# Altium integrated library Analog Devices Data Converters Analog-to-Digital Converters.IntLib: 2400 symbols (part 173 of 338)
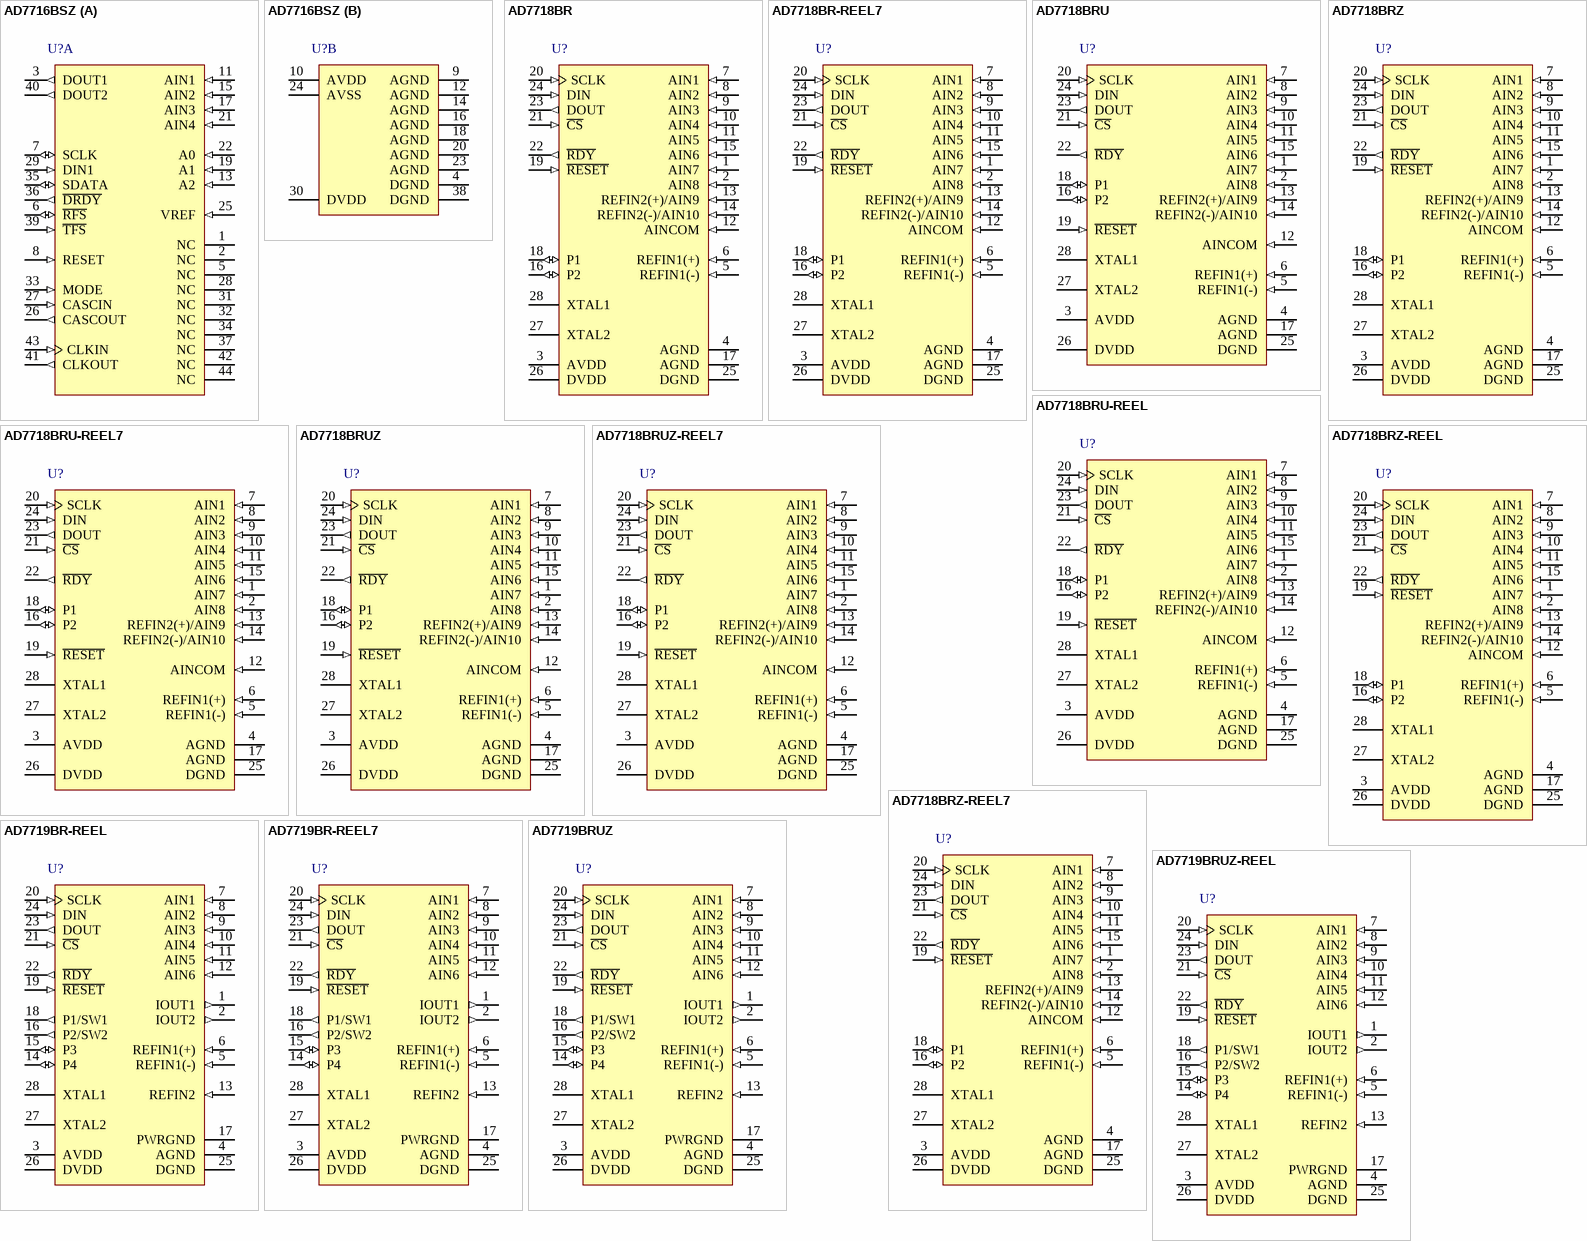
[diagram p252: symbols AD7716BSZ to AD7719BRUZ-REEL]

## AD7719BR-REEL7
designator U?
6 Channel 24-Bit Low Power Sigma-Delta Analog-to-Digital Converter with Serial, SPI Interface, Factory-Calibrated, 105SPS, -40 to +85 degC, RW-28, Reel; Part Number: AD7719; Manufacturer: Analog Devices; Resolution (Bits): 24; Channels: 6; Throughput Rate (SPS): 105; Interface: Ser, SPI; DatasheetVersion: Rev.A; PackageVersion: 060706-A; PackageReference: RW-28; PackageDescription: 28-Lead Standard Small Outline Package [SOIC_W]; RoHS: N; Packing: Reel; Mounting Technology: Surface Mount; Code_JEDEC: MS-013-AE; ComponentLink1Description: Manufacturer URL; ComponentLink1URL: http://www.analog.com/en/index.html; ComponentLink2Description: Datasheet; ComponentLink2URL: http://www.analog.com/static/imported-files/data_sheets/AD7719.pdf; ComponentLink3Description: Package Specification; ComponentLink3URL: http://www.analog.com/static/imported-files/packages/35833120341221RW_28.pdf; ComponentLink4Description: Product URL; ComponentLink4URL: http://www.analog.com/en/analog-to-digital-converters/ad-converters/ad7719/products/product.html
footprint RW-28_N (SOIC, 28-Leads, Body 17.9x7.5mm, Pitch 1.27mm, IPC Medium Density)
footprint RW-28_L (SOIC, 28-Leads, Body 17.9x7.5mm, Pitch 1.27mm, IPC High Density)
footprint RW-28_M (SOIC, 28-Leads, Body 17.9x7.5mm, Pitch 1.27mm, IPC Low Density)
pins: 1 IOUT1 (out) "Output for Internal 200 uA Excitation Current Source. Current source IEXC1 and/or IEXC2 can be switched to this output.", 2 IOUT2 (out) "Output for Internal 200 uA Excitation Current Source. Current source IEXC1 and/or IEXC2 can be switched to this output.", 3 AVDD (power) "Analog Supply Voltage.", 4 AGND (power) "Analog Ground.", 5 REFIN1(-) (in) "Negative Reference Input for Main ADC Channel. This reference input can lie anywhere between AGND and AVDD - 1 V.", 6 REFIN1(+) (in) "Positive Reference Input for Main ADC Channel. REFIN1(+) can lie anywhere between AVDD and AGND + 1 V. The nominal reference voltage (REFIN1(+) - REFIN1(-)) is 2.5 V, but the part is functional with a reference range from 1 (See Datasheet)", 7 AIN1 (in) "Analog Input. AIN1 is dedicated to the main channel.", 8 AIN2 (in) "Analog Input. AIN2 is dedicated to the main channel.", 9 AIN3 (in) "Analog Input. AIN3 can be multiplexed to either the main or auxiliary channel.", 10 AIN4 (in) "Analog Input. AIN4 can be multiplexed to either the main or auxiliary channel.", 11 AIN5 (in) "Analog Input. AIN5 is dedicated to the auxiliary channel and is referenced to AIN6 or AGND.", 12 AIN6 (in) "Analog Input. AIN6 is dedicated to the auxiliary channel. It forms a differential input pair with AIN5 in fully differential input mode or is referenced to AGND in pseudodifferential mode.", 13 REFIN2 (in) "Single-Ended Reference Input for Auxiliary Channel. The nominal input reference is 2.5 V. The auxiliary channel will function with an input reference range from 1 V to AVDD.", 14 P4 (io) "General-Purpose I/O Bit. The input and output voltage levels are referenced to AVDD and AGND.", 15 P3 (io) "General-Purpose I/O Bit. The input and output voltage levels are referenced to AVDD and AGND.", 16 P2/SW2 (out) "Dual-Purpose Pin. It can act as a general-purpose output (P2) bit referenced between AVDD and AGND or as a low-side power switch (SW2) to PWRGND.", 17 PWRGND (power) "Ground Point for the Low-Side Power Switches SW2 and SW1. PWRGND must be tied to AGND.", 18 P1/SW1 (out) "Dual-Purpose Pin. It can act as a general-purpose output (P1) bit referenced between AVDD and AGND or as a low-side power switch (SW1) to PWRGND.", 19 ~{RESET} (in) "Digital Input Used to Reset the ADC to Its Power-On Reset Status. This pin has a weak pull-up internally to DVDD.", 20 SCLK (in) "Serial Clock Input for Data Transfers to and from the ADC. The SCLK has a Schmitt-triggered input, making the interface suitable for opto-isolated applications. The serial clock can be continuous with all data transmitted in (See Datasheet)", 21 ~{CS} (in) "Chip Select Input. This is an active low logic input used to select the AD7719. C\S\ can be used to select the AD7719 in systems with more than one device on the serial bus or as a frame synchronization signal in (See Datasheet)", 22 ~{RDY} (out) "R\D\Y\ is a logic low status output from the AD7719. R\D\Y\ is low if either the main ADC or auxiliary ADC channel has valid data in its data register. This output returns high on completion of a read operation from the data (See Datasheet)", 23 DOUT (out) "Serial Data Output Accessing the Output Shift Register of the AD7719. The output shift register can contain data from any of the on-chip data, calibration, or control registers.", 24 DIN (in) "Serial Data Input Accessing the Input Shift Register on the AD7719. Data in this shift register is transferred to the calibration or control registers within the ADC depending on the selection bits of the Communications (See Datasheet)", 25 DGND (power) "Ground Reference Point for the Digital Circuitry.", 26 DVDD (power) "Digital Supply Voltage, 3 V or 5 V Nominal.", 27 XTAL2 "Output from the 32 kHz Crystal Oscillator Inverter.", 28 XTAL1 "Input to the 32 kHz Crystal Oscillator Inverter."

## AD7719BRUZ
designator U?
6 Channel 24-Bit Low Power Sigma-Delta Analog-to-Digital Converter with Serial, SPI Interface, Factory-Calibrated, 105SPS, -40 to +85 degC, RU-28, Pb-Free, Tube; Part Number: AD7719; Manufacturer: Analog Devices; Resolution (Bits): 24; Channels: 6; Throughput Rate (SPS): 105; Interface: Ser, SPI; DatasheetVersion: Rev.A; PackageVersion: 2005; PackageReference: RU-28; PackageDescription: 28-Lead Thin Shrink Small Outline Package [TSSOP]; RoHS: Y; Packing: Tube; Mounting Technology: Surface Mount; Code_JEDEC: MO-153-AE; ComponentLink1Description: Manufacturer URL; ComponentLink1URL: http://www.analog.com/en/index.html; ComponentLink2Description: Datasheet; ComponentLink2URL: http://www.analog.com/static/imported-files/data_sheets/AD7719.pdf; ComponentLink3Description: Package Specification; ComponentLink3URL: http://www.analog.com/static/imported-files/packages/249854663RU_28.pdf; ComponentLink4Description: Product URL; ComponentLink4URL: http://www.analog.com/en/analog-to-digital-converters/ad-converters/ad7719/products/product.html
footprint RU-28_N (TSOP, 28-Leads, Body 9.7x4.4mm, Pitch 0.65mm, IPC Medium Density)
footprint RU-28_L (TSOP, 28-Leads, Body 9.7x4.4mm, Pitch 0.65mm, IPC High Density)
footprint RU-28_M (TSOP, 28-Leads, Body 9.7x4.4mm, Pitch 0.65mm, IPC Low Density)
pins: 1 IOUT1 (out) "Output for Internal 200 uA Excitation Current Source. Current source IEXC1 and/or IEXC2 can be switched to this output.", 2 IOUT2 (out) "Output for Internal 200 uA Excitation Current Source. Current source IEXC1 and/or IEXC2 can be switched to this output.", 3 AVDD (power) "Analog Supply Voltage.", 4 AGND (power) "Analog Ground.", 5 REFIN1(-) (in) "Negative Reference Input for Main ADC Channel. This reference input can lie anywhere between AGND and AVDD - 1 V.", 6 REFIN1(+) (in) "Positive Reference Input for Main ADC Channel. REFIN1(+) can lie anywhere between AVDD and AGND + 1 V. The nominal reference voltage (REFIN1(+) - REFIN1(-)) is 2.5 V, but the part is functional with a reference range from 1 (See Datasheet)", 7 AIN1 (in) "Analog Input. AIN1 is dedicated to the main channel.", 8 AIN2 (in) "Analog Input. AIN2 is dedicated to the main channel.", 9 AIN3 (in) "Analog Input. AIN3 can be multiplexed to either the main or auxiliary channel.", 10 AIN4 (in) "Analog Input. AIN4 can be multiplexed to either the main or auxiliary channel.", 11 AIN5 (in) "Analog Input. AIN5 is dedicated to the auxiliary channel and is referenced to AIN6 or AGND.", 12 AIN6 (in) "Analog Input. AIN6 is dedicated to the auxiliary channel. It forms a differential input pair with AIN5 in fully differential input mode or is referenced to AGND in pseudodifferential mode.", 13 REFIN2 (in) "Single-Ended Reference Input for Auxiliary Channel. The nominal input reference is 2.5 V. The auxiliary channel will function with an input reference range from 1 V to AVDD.", 14 P4 (io) "General-Purpose I/O Bit. The input and output voltage levels are referenced to AVDD and AGND.", 15 P3 (io) "General-Purpose I/O Bit. The input and output voltage levels are referenced to AVDD and AGND.", 16 P2/SW2 (out) "Dual-Purpose Pin. It can act as a general-purpose output (P2) bit referenced between AVDD and AGND or as a low-side power switch (SW2) to PWRGND.", 17 PWRGND (power) "Ground Point for the Low-Side Power Switches SW2 and SW1. PWRGND must be tied to AGND.", 18 P1/SW1 (out) "Dual-Purpose Pin. It can act as a general-purpose output (P1) bit referenced between AVDD and AGND or as a low-side power switch (SW1) to PWRGND.", 19 ~{RESET} (in) "Digital Input Used to Reset the ADC to Its Power-On Reset Status. This pin has a weak pull-up internally to DVDD.", 20 SCLK (in) "Serial Clock Input for Data Transfers to and from the ADC. The SCLK has a Schmitt-triggered input, making the interface suitable for opto-isolated applications. The serial clock can be continuous with all data transmitted in (See Datasheet)", 21 ~{CS} (in) "Chip Select Input. This is an active low logic input used to select the AD7719. C\S\ can be used to select the AD7719 in systems with more than one device on the serial bus or as a frame synchronization signal in (See Datasheet)", 22 ~{RDY} (out) "R\D\Y\ is a logic low status output from the AD7719. R\D\Y\ is low if either the main ADC or auxiliary ADC channel has valid data in its data register. This output returns high on completion of a read operation from the data (See Datasheet)", 23 DOUT (out) "Serial Data Output Accessing the Output Shift Register of the AD7719. The output shift register can contain data from any of the on-chip data, calibration, or control registers.", 24 DIN (in) "Serial Data Input Accessing the Input Shift Register on the AD7719. Data in this shift register is transferred to the calibration or control registers within the ADC depending on the selection bits of the Communications (See Datasheet)", 25 DGND (power) "Ground Reference Point for the Digital Circuitry.", 26 DVDD (power) "Digital Supply Voltage, 3 V or 5 V Nominal.", 27 XTAL2 "Output from the 32 kHz Crystal Oscillator Inverter.", 28 XTAL1 "Input to the 32 kHz Crystal Oscillator Inverter."

## AD7719BRUZ-REEL
designator U?
6 Channel 24-Bit Low Power Sigma-Delta Analog-to-Digital Converter with Serial, SPI Interface, Factory-Calibrated, 105SPS, -40 to +85 degC, RU-28, Pb-Free, Reel; Part Number: AD7719; Manufacturer: Analog Devices; Resolution (Bits): 24; Channels: 6; Throughput Rate (SPS): 105; Interface: Ser, SPI; DatasheetVersion: Rev.A; PackageVersion: 2005; PackageReference: RU-28; PackageDescription: 28-Lead Thin Shrink Small Outline Package [TSSOP]; RoHS: Y; Packing: Reel; Mounting Technology: Surface Mount; Code_JEDEC: MO-153-AE; ComponentLink1Description: Manufacturer URL; ComponentLink1URL: http://www.analog.com/en/index.html; ComponentLink2Description: Datasheet; ComponentLink2URL: http://www.analog.com/static/imported-files/data_sheets/AD7719.pdf; ComponentLink3Description: Package Specification; ComponentLink3URL: http://www.analog.com/static/imported-files/packages/249854663RU_28.pdf; ComponentLink4Description: Product URL; ComponentLink4URL: http://www.analog.com/en/analog-to-digital-converters/ad-converters/ad7719/products/product.html
footprint RU-28_N (TSOP, 28-Leads, Body 9.7x4.4mm, Pitch 0.65mm, IPC Medium Density)
footprint RU-28_L (TSOP, 28-Leads, Body 9.7x4.4mm, Pitch 0.65mm, IPC High Density)
footprint RU-28_M (TSOP, 28-Leads, Body 9.7x4.4mm, Pitch 0.65mm, IPC Low Density)
pins: 1 IOUT1 (out) "Output for Internal 200 uA Excitation Current Source. Current source IEXC1 and/or IEXC2 can be switched to this output.", 2 IOUT2 (out) "Output for Internal 200 uA Excitation Current Source. Current source IEXC1 and/or IEXC2 can be switched to this output.", 3 AVDD (power) "Analog Supply Voltage.", 4 AGND (power) "Analog Ground.", 5 REFIN1(-) (in) "Negative Reference Input for Main ADC Channel. This reference input can lie anywhere between AGND and AVDD - 1 V.", 6 REFIN1(+) (in) "Positive Reference Input for Main ADC Channel. REFIN1(+) can lie anywhere between AVDD and AGND + 1 V. The nominal reference voltage (REFIN1(+) - REFIN1(-)) is 2.5 V, but the part is functional with a reference range from 1 (See Datasheet)", 7 AIN1 (in) "Analog Input. AIN1 is dedicated to the main channel.", 8 AIN2 (in) "Analog Input. AIN2 is dedicated to the main channel.", 9 AIN3 (in) "Analog Input. AIN3 can be multiplexed to either the main or auxiliary channel.", 10 AIN4 (in) "Analog Input. AIN4 can be multiplexed to either the main or auxiliary channel.", 11 AIN5 (in) "Analog Input. AIN5 is dedicated to the auxiliary channel and is referenced to AIN6 or AGND.", 12 AIN6 (in) "Analog Input. AIN6 is dedicated to the auxiliary channel. It forms a differential input pair with AIN5 in fully differential input mode or is referenced to AGND in pseudodifferential mode.", 13 REFIN2 (in) "Single-Ended Reference Input for Auxiliary Channel. The nominal input reference is 2.5 V. The auxiliary channel will function with an input reference range from 1 V to AVDD.", 14 P4 (io) "General-Purpose I/O Bit. The input and output voltage levels are referenced to AVDD and AGND.", 15 P3 (io) "General-Purpose I/O Bit. The input and output voltage levels are referenced to AVDD and AGND.", 16 P2/SW2 (out) "Dual-Purpose Pin. It can act as a general-purpose output (P2) bit referenced between AVDD and AGND or as a low-side power switch (SW2) to PWRGND.", 17 PWRGND (power) "Ground Point for the Low-Side Power Switches SW2 and SW1. PWRGND must be tied to AGND.", 18 P1/SW1 (out) "Dual-Purpose Pin. It can act as a general-purpose output (P1) bit referenced between AVDD and AGND or as a low-side power switch (SW1) to PWRGND.", 19 ~{RESET} (in) "Digital Input Used to Reset the ADC to Its Power-On Reset Status. This pin has a weak pull-up internally to DVDD.", 20 SCLK (in) "Serial Clock Input for Data Transfers to and from the ADC. The SCLK has a Schmitt-triggered input, making the interface suitable for opto-isolated applications. The serial clock can be continuous with all data transmitted in (See Datasheet)", 21 ~{CS} (in) "Chip Select Input. This is an active low logic input used to select the AD7719. C\S\ can be used to select the AD7719 in systems with more than one device on the serial bus or as a frame synchronization signal in (See Datasheet)", 22 ~{RDY} (out) "R\D\Y\ is a logic low status output from the AD7719. R\D\Y\ is low if either the main ADC or auxiliary ADC channel has valid data in its data register. This output returns high on completion of a read operation from the data (See Datasheet)", 23 DOUT (out) "Serial Data Output Accessing the Output Shift Register of the AD7719. The output shift register can contain data from any of the on-chip data, calibration, or control registers.", 24 DIN (in) "Serial Data Input Accessing the Input Shift Register on the AD7719. Data in this shift register is transferred to the calibration or control registers within the ADC depending on the selection bits of the Communications (See Datasheet)", 25 DGND (power) "Ground Reference Point for the Digital Circuitry.", 26 DVDD (power) "Digital Supply Voltage, 3 V or 5 V Nominal.", 27 XTAL2 "Output from the 32 kHz Crystal Oscillator Inverter.", 28 XTAL1 "Input to the 32 kHz Crystal Oscillator Inverter."

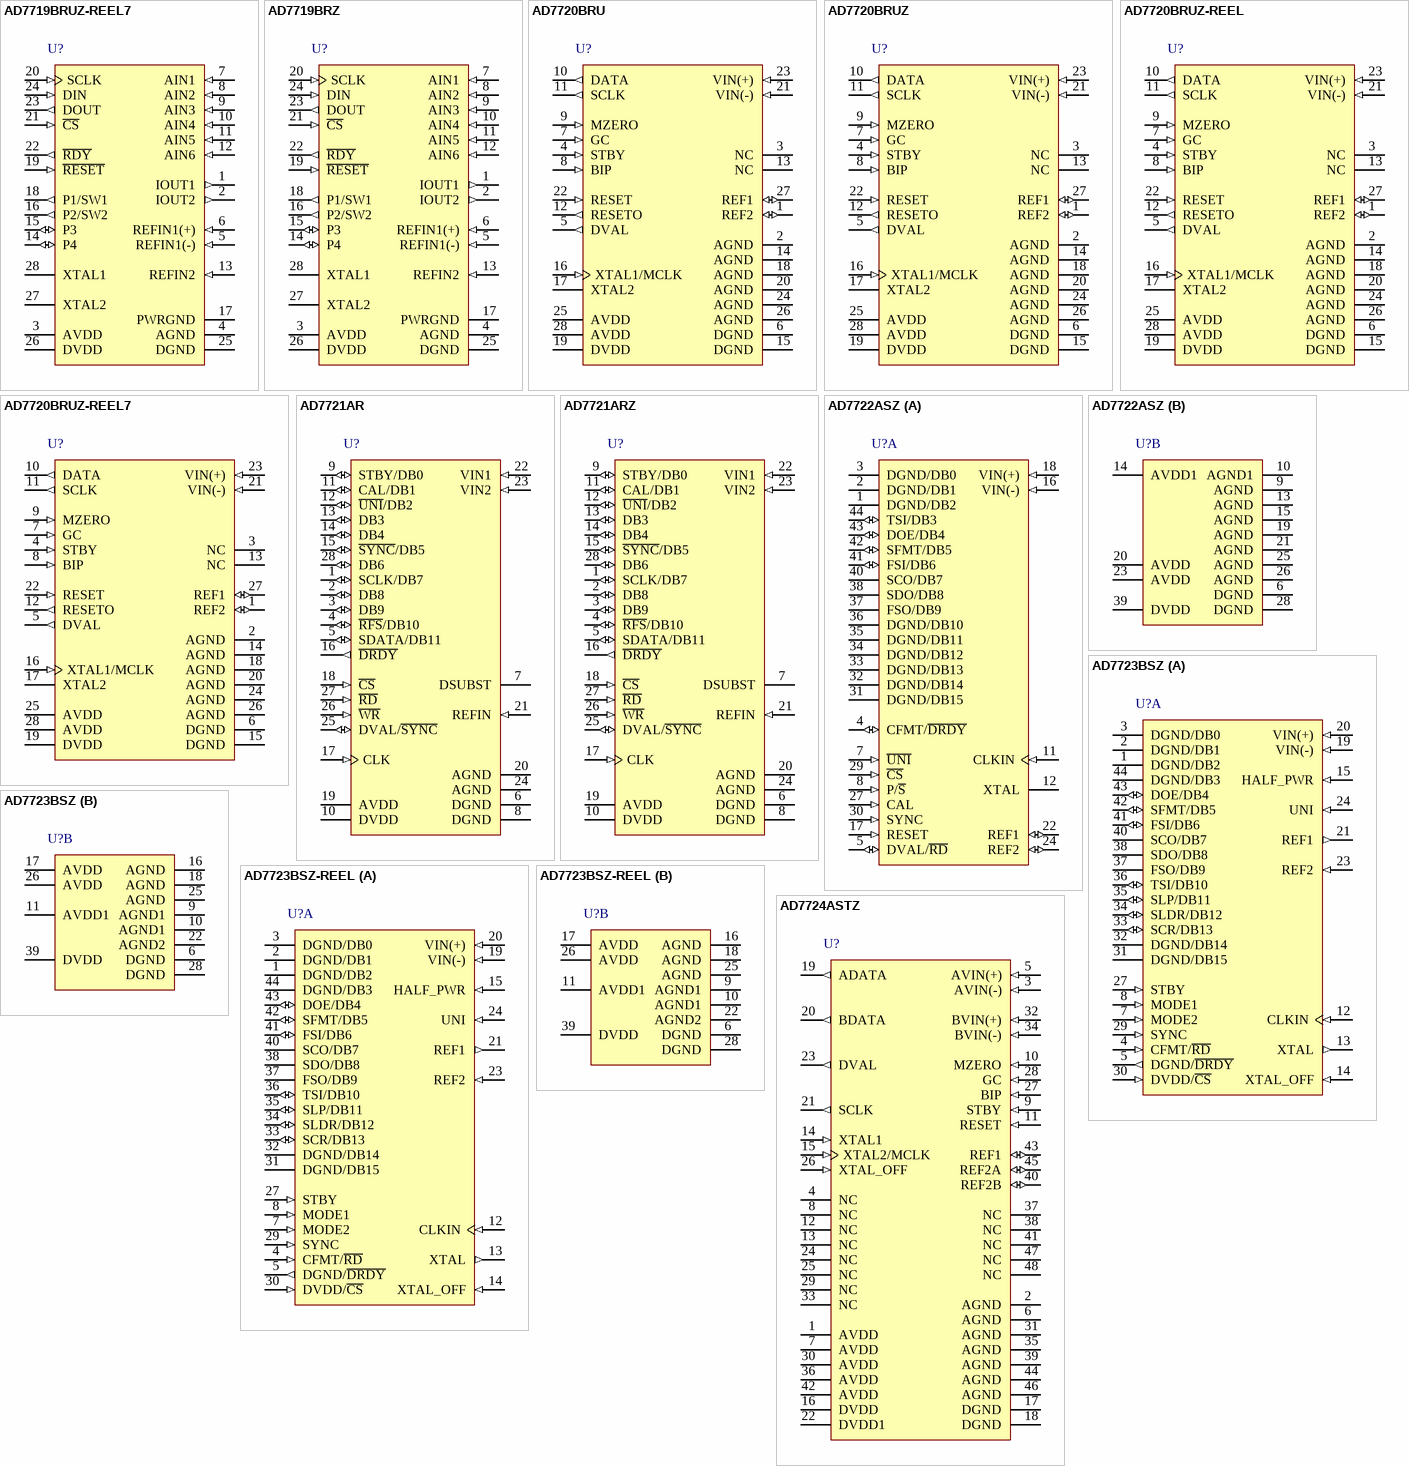
[diagram p55: symbols AD7719BRUZ-REEL7 to AD7724ASTZ]

## AD7719BRUZ-REEL7
designator U?
6 Channel 24-Bit Low Power Sigma-Delta Analog-to-Digital Converter with Serial, SPI Interface, Factory-Calibrated, 105SPS, -40 to +85 degC, RU-28, Pb-Free, Reel; Part Number: AD7719; Manufacturer: Analog Devices; Resolution (Bits): 24; Channels: 6; Throughput Rate (SPS): 105; Interface: Ser, SPI; DatasheetVersion: Rev.A; PackageVersion: 2005; PackageReference: RU-28; PackageDescription: 28-Lead Thin Shrink Small Outline Package [TSSOP]; RoHS: Y; Packing: Reel; Mounting Technology: Surface Mount; Code_JEDEC: MO-153-AE; ComponentLink1Description: Manufacturer URL; ComponentLink1URL: http://www.analog.com/en/index.html; ComponentLink2Description: Datasheet; ComponentLink2URL: http://www.analog.com/static/imported-files/data_sheets/AD7719.pdf; ComponentLink3Description: Package Specification; ComponentLink3URL: http://www.analog.com/static/imported-files/packages/249854663RU_28.pdf; ComponentLink4Description: Product URL; ComponentLink4URL: http://www.analog.com/en/analog-to-digital-converters/ad-converters/ad7719/products/product.html
footprint RU-28_N (TSOP, 28-Leads, Body 9.7x4.4mm, Pitch 0.65mm, IPC Medium Density)
footprint RU-28_L (TSOP, 28-Leads, Body 9.7x4.4mm, Pitch 0.65mm, IPC High Density)
footprint RU-28_M (TSOP, 28-Leads, Body 9.7x4.4mm, Pitch 0.65mm, IPC Low Density)
pins: 1 IOUT1 (out) "Output for Internal 200 uA Excitation Current Source. Current source IEXC1 and/or IEXC2 can be switched to this output.", 2 IOUT2 (out) "Output for Internal 200 uA Excitation Current Source. Current source IEXC1 and/or IEXC2 can be switched to this output.", 3 AVDD (power) "Analog Supply Voltage.", 4 AGND (power) "Analog Ground.", 5 REFIN1(-) (in) "Negative Reference Input for Main ADC Channel. This reference input can lie anywhere between AGND and AVDD - 1 V.", 6 REFIN1(+) (in) "Positive Reference Input for Main ADC Channel. REFIN1(+) can lie anywhere between AVDD and AGND + 1 V. The nominal reference voltage (REFIN1(+) - REFIN1(-)) is 2.5 V, but the part is functional with a reference range from 1 (See Datasheet)", 7 AIN1 (in) "Analog Input. AIN1 is dedicated to the main channel.", 8 AIN2 (in) "Analog Input. AIN2 is dedicated to the main channel.", 9 AIN3 (in) "Analog Input. AIN3 can be multiplexed to either the main or auxiliary channel.", 10 AIN4 (in) "Analog Input. AIN4 can be multiplexed to either the main or auxiliary channel.", 11 AIN5 (in) "Analog Input. AIN5 is dedicated to the auxiliary channel and is referenced to AIN6 or AGND.", 12 AIN6 (in) "Analog Input. AIN6 is dedicated to the auxiliary channel. It forms a differential input pair with AIN5 in fully differential input mode or is referenced to AGND in pseudodifferential mode.", 13 REFIN2 (in) "Single-Ended Reference Input for Auxiliary Channel. The nominal input reference is 2.5 V. The auxiliary channel will function with an input reference range from 1 V to AVDD.", 14 P4 (io) "General-Purpose I/O Bit. The input and output voltage levels are referenced to AVDD and AGND.", 15 P3 (io) "General-Purpose I/O Bit. The input and output voltage levels are referenced to AVDD and AGND.", 16 P2/SW2 (out) "Dual-Purpose Pin. It can act as a general-purpose output (P2) bit referenced between AVDD and AGND or as a low-side power switch (SW2) to PWRGND.", 17 PWRGND (power) "Ground Point for the Low-Side Power Switches SW2 and SW1. PWRGND must be tied to AGND.", 18 P1/SW1 (out) "Dual-Purpose Pin. It can act as a general-purpose output (P1) bit referenced between AVDD and AGND or as a low-side power switch (SW1) to PWRGND.", 19 ~{RESET} (in) "Digital Input Used to Reset the ADC to Its Power-On Reset Status. This pin has a weak pull-up internally to DVDD.", 20 SCLK (in) "Serial Clock Input for Data Transfers to and from the ADC. The SCLK has a Schmitt-triggered input, making the interface suitable for opto-isolated applications. The serial clock can be continuous with all data transmitted in (See Datasheet)", 21 ~{CS} (in) "Chip Select Input. This is an active low logic input used to select the AD7719. C\S\ can be used to select the AD7719 in systems with more than one device on the serial bus or as a frame synchronization signal in (See Datasheet)", 22 ~{RDY} (out) "R\D\Y\ is a logic low status output from the AD7719. R\D\Y\ is low if either the main ADC or auxiliary ADC channel has valid data in its data register. This output returns high on completion of a read operation from the data (See Datasheet)", 23 DOUT (out) "Serial Data Output Accessing the Output Shift Register of the AD7719. The output shift register can contain data from any of the on-chip data, calibration, or control registers.", 24 DIN (in) "Serial Data Input Accessing the Input Shift Register on the AD7719. Data in this shift register is transferred to the calibration or control registers within the ADC depending on the selection bits of the Communications (See Datasheet)", 25 DGND (power) "Ground Reference Point for the Digital Circuitry.", 26 DVDD (power) "Digital Supply Voltage, 3 V or 5 V Nominal.", 27 XTAL2 "Output from the 32 kHz Crystal Oscillator Inverter.", 28 XTAL1 "Input to the 32 kHz Crystal Oscillator Inverter."

## AD7719BRZ
designator U?
6 Channel 24-Bit Low Power Sigma-Delta Analog-to-Digital Converter with Serial, SPI Interface, Factory-Calibrated, 105SPS, -40 to +85 degC, RW-28, Pb-Free, Tube; Part Number: AD7719; Manufacturer: Analog Devices; Resolution (Bits): 24; Channels: 6; Throughput Rate (SPS): 105; Interface: Ser, SPI; DatasheetVersion: Rev.A; PackageVersion: 060706-A; PackageReference: RW-28; PackageDescription: 28-Lead Standard Small Outline Package [SOIC_W]; RoHS: Y; Packing: Tube; Mounting Technology: Surface Mount; Code_JEDEC: MS-013-AE; ComponentLink1Description: Manufacturer URL; ComponentLink1URL: http://www.analog.com/en/index.html; ComponentLink2Description: Datasheet; ComponentLink2URL: http://www.analog.com/static/imported-files/data_sheets/AD7719.pdf; ComponentLink3Description: Package Specification; ComponentLink3URL: http://www.analog.com/static/imported-files/packages/35833120341221RW_28.pdf; ComponentLink4Description: Product URL; ComponentLink4URL: http://www.analog.com/en/analog-to-digital-converters/ad-converters/ad7719/products/product.html
footprint RW-28_N (SOIC, 28-Leads, Body 17.9x7.5mm, Pitch 1.27mm, IPC Medium Density)
footprint RW-28_L (SOIC, 28-Leads, Body 17.9x7.5mm, Pitch 1.27mm, IPC High Density)
footprint RW-28_M (SOIC, 28-Leads, Body 17.9x7.5mm, Pitch 1.27mm, IPC Low Density)
pins: 1 IOUT1 (out) "Output for Internal 200 uA Excitation Current Source. Current source IEXC1 and/or IEXC2 can be switched to this output.", 2 IOUT2 (out) "Output for Internal 200 uA Excitation Current Source. Current source IEXC1 and/or IEXC2 can be switched to this output.", 3 AVDD (power) "Analog Supply Voltage.", 4 AGND (power) "Analog Ground.", 5 REFIN1(-) (in) "Negative Reference Input for Main ADC Channel. This reference input can lie anywhere between AGND and AVDD - 1 V.", 6 REFIN1(+) (in) "Positive Reference Input for Main ADC Channel. REFIN1(+) can lie anywhere between AVDD and AGND + 1 V. The nominal reference voltage (REFIN1(+) - REFIN1(-)) is 2.5 V, but the part is functional with a reference range from 1 (See Datasheet)", 7 AIN1 (in) "Analog Input. AIN1 is dedicated to the main channel.", 8 AIN2 (in) "Analog Input. AIN2 is dedicated to the main channel.", 9 AIN3 (in) "Analog Input. AIN3 can be multiplexed to either the main or auxiliary channel.", 10 AIN4 (in) "Analog Input. AIN4 can be multiplexed to either the main or auxiliary channel.", 11 AIN5 (in) "Analog Input. AIN5 is dedicated to the auxiliary channel and is referenced to AIN6 or AGND.", 12 AIN6 (in) "Analog Input. AIN6 is dedicated to the auxiliary channel. It forms a differential input pair with AIN5 in fully differential input mode or is referenced to AGND in pseudodifferential mode.", 13 REFIN2 (in) "Single-Ended Reference Input for Auxiliary Channel. The nominal input reference is 2.5 V. The auxiliary channel will function with an input reference range from 1 V to AVDD.", 14 P4 (io) "General-Purpose I/O Bit. The input and output voltage levels are referenced to AVDD and AGND.", 15 P3 (io) "General-Purpose I/O Bit. The input and output voltage levels are referenced to AVDD and AGND.", 16 P2/SW2 (out) "Dual-Purpose Pin. It can act as a general-purpose output (P2) bit referenced between AVDD and AGND or as a low-side power switch (SW2) to PWRGND.", 17 PWRGND (power) "Ground Point for the Low-Side Power Switches SW2 and SW1. PWRGND must be tied to AGND.", 18 P1/SW1 (out) "Dual-Purpose Pin. It can act as a general-purpose output (P1) bit referenced between AVDD and AGND or as a low-side power switch (SW1) to PWRGND.", 19 ~{RESET} (in) "Digital Input Used to Reset the ADC to Its Power-On Reset Status. This pin has a weak pull-up internally to DVDD.", 20 SCLK (in) "Serial Clock Input for Data Transfers to and from the ADC. The SCLK has a Schmitt-triggered input, making the interface suitable for opto-isolated applications. The serial clock can be continuous with all data transmitted in (See Datasheet)", 21 ~{CS} (in) "Chip Select Input. This is an active low logic input used to select the AD7719. C\S\ can be used to select the AD7719 in systems with more than one device on the serial bus or as a frame synchronization signal in (See Datasheet)", 22 ~{RDY} (out) "R\D\Y\ is a logic low status output from the AD7719. R\D\Y\ is low if either the main ADC or auxiliary ADC channel has valid data in its data register. This output returns high on completion of a read operation from the data (See Datasheet)", 23 DOUT (out) "Serial Data Output Accessing the Output Shift Register of the AD7719. The output shift register can contain data from any of the on-chip data, calibration, or control registers.", 24 DIN (in) "Serial Data Input Accessing the Input Shift Register on the AD7719. Data in this shift register is transferred to the calibration or control registers within the ADC depending on the selection bits of the Communications (See Datasheet)", 25 DGND (power) "Ground Reference Point for the Digital Circuitry.", 26 DVDD (power) "Digital Supply Voltage, 3 V or 5 V Nominal.", 27 XTAL2 "Output from the 32 kHz Crystal Oscillator Inverter.", 28 XTAL1 "Input to the 32 kHz Crystal Oscillator Inverter."

## AD7720BRU
designator U?
Single 16-Bit Sigma-Delta Analog-to-Digital Converter with Serial Interface, 12.5MSPS, -40 to +85 degC, RU-28, Tube; Part Number: AD7720; Manufacturer: Analog Devices; Resolution (Bits): 16; Channels: 1; Throughput Rate (SPS): 12.5M; Interface: Ser; DatasheetVersion: Rev.0; PackageVersion: 2005; PackageReference: RU-28; PackageDescription: 28-Lead Thin Shrink Small Outline Package [TSSOP]; RoHS: N; Packing: Tube; Mounting Technology: Surface Mount; Code_JEDEC: MO-153-AE; ComponentLink1Description: Manufacturer URL; ComponentLink1URL: http://www.analog.com/en/index.html; ComponentLink2Description: Datasheet; ComponentLink2URL: http://www.analog.com/static/imported-files/data_sheets/AD7720.pdf; ComponentLink3Description: Package Specification; ComponentLink3URL: http://www.analog.com/static/imported-files/packages/249854663RU_28.pdf; ComponentLink4Description: Product URL; ComponentLink4URL: http://www.analog.com/en/analog-to-digital-converters/ad-converters/ad7720/products/product.html
footprint RU-28_N (TSOP, 28-Leads, Body 9.7x4.4mm, Pitch 0.65mm, IPC Medium Density)
footprint RU-28_L (TSOP, 28-Leads, Body 9.7x4.4mm, Pitch 0.65mm, IPC High Density)
footprint RU-28_M (TSOP, 28-Leads, Body 9.7x4.4mm, Pitch 0.65mm, IPC Low Density)
pins: 1 REF2 (io) "Reference Input/Output. REF2 connects to the output of an internal buffer amplifier used to drive the sigma-delta modulator. When REF2 is used as an input, REF1 must be connected to AGND.", 2 AGND (power) "Ground reference point for analog circuitry.", 3 NC "No Connect.", 4 STBY (in) "Standby, Logic Input. When STBY is high, the device is placed in a low power mode. When STBY is low, the device is powered up.", 5 DVAL (out) "Data Valid Logic Output. A logic high on DVAL indicates that the data bit stream from the AD7720 is an accurate digital representation of the analog voltage at the input to the sigma-delta modulator. The DVAL pin is set low (See Datasheet)", 6 DGND (power) "Ground reference for the digital circuitry.", 7 GC (in) "Digital Control Input. When GC is high, the gain error of the modulator can be calibrated.", 8 BIP (in) "Analog Input Range Select, Logic Input. A logic low on this input selects unipolar mode. A logic high selects bipolar mode.", 9 MZERO (in) "Digital Control Input. When MZERO is high, the modulator inputs are internally grounded, i.e., tied to AGND in unipolar mode and REF2 in bipolar mode. MZERO allows on-chip offsets to be calibrated out. MZERO is low for (See Datasheet)", 10 DATA (out) "Modulator Bit Stream. The digital bit stream from the sigma-delta modulator is output at DATA.", 11 SCLK (out) "Serial Clock, Logic Output. The bit stream from the modulator is valid on the rising edge of SCLK.", 12 RESETO (out) "Reset Logic Output. The signal applied to the RESET pin is made available as an output at RESETO.", 13 NC "No Connect.", 14 AGND (power) "Ground reference point for analog circuitry.", 15 DGND (power) "Ground reference for the digital circuitry.", 16 XTAL1/MCLK (in) "CMOS Logic Clock Input. The XTAL1/MCLK pin interfaces the device’s internal oscillator circuit to an external crystal or an external clock. A parallel resonant, fundamental-frequency, microprocessor-grade crystal and a 1 (See Datasheet)", 17 XTAL2 "Oscillator Output. The XTAL2 pin connects the internal oscillator output to an external crystal. If an external clock is used, XTAL2 should be left unconnected.", 18 AGND (power) "Ground reference point for analog circuitry.", 19 DVDD (power) "Digital Supply Voltage, +5 V +/- 5%.", 20 AGND (power) "Ground reference point for analog circuitry.", 21 VIN(-) (in) "Analog Input. In unipolar operation, the analog input range on VIN(+) is VIN(-) to (VIN(-) + VREF); for bipolar operation, the analog input range on VIN+ is (VIN(-) +/- VREF/2). The absolute analog input range must lie (See Datasheet)", 22 RESET (in) "Reset Logic Input. RESET is an asynchronous input. When RESET is taken high, the sigma-delta modulator is reset by shorting the integrator capacitors in the modulator. DVAL goes low for 20 MCLK cycles while the modulator is (See Datasheet)", 23 VIN(+) (in) "Analog Input. In unipolar operation, the analog input range on VIN(+) is VIN(-) to (VIN(-) + VREF); for bipolar operation, the analog input range on VIN+ is (VIN(-) +/- VREF/2). The absolute analog input range must lie (See Datasheet)", 24 AGND (power) "Ground reference point for analog circuitry.", 25 AVDD (power) "Analog Positive Supply Voltage, +5 V +/- 5%.", 26 AGND (power) "Ground reference point for analog circuitry.", 27 REF1 (io) "Reference Input/Output. REF1 connects via a 3 k ohm resistor to the output of the internal 2.5 V reference, and to the input of a buffer amplifier that drives the sigma-delta modulator. This pin can also be overdriven with (See Datasheet)", 28 AVDD (power) "Analog Positive Supply Voltage, +5 V +/- 5%."

## AD7720BRUZ
designator U?
Single 16-Bit Sigma-Delta Analog-to-Digital Converter with Serial Interface, 12.5MSPS, -40 to +85 degC, RU-28, Pb-Free, Tube; Part Number: AD7720; Manufacturer: Analog Devices; Resolution (Bits): 16; Channels: 1; Throughput Rate (SPS): 12.5M; Interface: Ser; DatasheetVersion: Rev.0; PackageVersion: 2005; PackageReference: RU-28; PackageDescription: 28-Lead Thin Shrink Small Outline Package [TSSOP]; RoHS: Y; Packing: Tube; Mounting Technology: Surface Mount; Code_JEDEC: MO-153-AE; ComponentLink1Description: Manufacturer URL; ComponentLink1URL: http://www.analog.com/en/index.html; ComponentLink2Description: Datasheet; ComponentLink2URL: http://www.analog.com/static/imported-files/data_sheets/AD7720.pdf; ComponentLink3Description: Package Specification; ComponentLink3URL: http://www.analog.com/static/imported-files/packages/249854663RU_28.pdf; ComponentLink4Description: Product URL; ComponentLink4URL: http://www.analog.com/en/analog-to-digital-converters/ad-converters/ad7720/products/product.html
footprint RU-28_N (TSOP, 28-Leads, Body 9.7x4.4mm, Pitch 0.65mm, IPC Medium Density)
footprint RU-28_L (TSOP, 28-Leads, Body 9.7x4.4mm, Pitch 0.65mm, IPC High Density)
footprint RU-28_M (TSOP, 28-Leads, Body 9.7x4.4mm, Pitch 0.65mm, IPC Low Density)
pins: 1 REF2 (io) "Reference Input/Output. REF2 connects to the output of an internal buffer amplifier used to drive the sigma-delta modulator. When REF2 is used as an input, REF1 must be connected to AGND.", 2 AGND (power) "Ground reference point for analog circuitry.", 3 NC "No Connect.", 4 STBY (in) "Standby, Logic Input. When STBY is high, the device is placed in a low power mode. When STBY is low, the device is powered up.", 5 DVAL (out) "Data Valid Logic Output. A logic high on DVAL indicates that the data bit stream from the AD7720 is an accurate digital representation of the analog voltage at the input to the sigma-delta modulator. The DVAL pin is set low (See Datasheet)", 6 DGND (power) "Ground reference for the digital circuitry.", 7 GC (in) "Digital Control Input. When GC is high, the gain error of the modulator can be calibrated.", 8 BIP (in) "Analog Input Range Select, Logic Input. A logic low on this input selects unipolar mode. A logic high selects bipolar mode.", 9 MZERO (in) "Digital Control Input. When MZERO is high, the modulator inputs are internally grounded, i.e., tied to AGND in unipolar mode and REF2 in bipolar mode. MZERO allows on-chip offsets to be calibrated out. MZERO is low for (See Datasheet)", 10 DATA (out) "Modulator Bit Stream. The digital bit stream from the sigma-delta modulator is output at DATA.", 11 SCLK (out) "Serial Clock, Logic Output. The bit stream from the modulator is valid on the rising edge of SCLK.", 12 RESETO (out) "Reset Logic Output. The signal applied to the RESET pin is made available as an output at RESETO.", 13 NC "No Connect.", 14 AGND (power) "Ground reference point for analog circuitry.", 15 DGND (power) "Ground reference for the digital circuitry.", 16 XTAL1/MCLK (in) "CMOS Logic Clock Input. The XTAL1/MCLK pin interfaces the device’s internal oscillator circuit to an external crystal or an external clock. A parallel resonant, fundamental-frequency, microprocessor-grade crystal and a 1 (See Datasheet)", 17 XTAL2 "Oscillator Output. The XTAL2 pin connects the internal oscillator output to an external crystal. If an external clock is used, XTAL2 should be left unconnected.", 18 AGND (power) "Ground reference point for analog circuitry.", 19 DVDD (power) "Digital Supply Voltage, +5 V +/- 5%.", 20 AGND (power) "Ground reference point for analog circuitry.", 21 VIN(-) (in) "Analog Input. In unipolar operation, the analog input range on VIN(+) is VIN(-) to (VIN(-) + VREF); for bipolar operation, the analog input range on VIN+ is (VIN(-) +/- VREF/2). The absolute analog input range must lie (See Datasheet)", 22 RESET (in) "Reset Logic Input. RESET is an asynchronous input. When RESET is taken high, the sigma-delta modulator is reset by shorting the integrator capacitors in the modulator. DVAL goes low for 20 MCLK cycles while the modulator is (See Datasheet)", 23 VIN(+) (in) "Analog Input. In unipolar operation, the analog input range on VIN(+) is VIN(-) to (VIN(-) + VREF); for bipolar operation, the analog input range on VIN+ is (VIN(-) +/- VREF/2). The absolute analog input range must lie (See Datasheet)", 24 AGND (power) "Ground reference point for analog circuitry.", 25 AVDD (power) "Analog Positive Supply Voltage, +5 V +/- 5%.", 26 AGND (power) "Ground reference point for analog circuitry.", 27 REF1 (io) "Reference Input/Output. REF1 connects via a 3 k ohm resistor to the output of the internal 2.5 V reference, and to the input of a buffer amplifier that drives the sigma-delta modulator. This pin can also be overdriven with (See Datasheet)", 28 AVDD (power) "Analog Positive Supply Voltage, +5 V +/- 5%."

## AD7720BRUZ-REEL
designator U?
Single 16-Bit Sigma-Delta Analog-to-Digital Converter with Serial Interface, 12.5MSPS, -40 to +85 degC, RU-28, Pb-Free, Reel; Part Number: AD7720; Manufacturer: Analog Devices; Resolution (Bits): 16; Channels: 1; Throughput Rate (SPS): 12.5M; Interface: Ser; DatasheetVersion: Rev.0; PackageVersion: 2005; PackageReference: RU-28; PackageDescription: 28-Lead Thin Shrink Small Outline Package [TSSOP]; RoHS: Y; Packing: Reel; Mounting Technology: Surface Mount; Code_JEDEC: MO-153-AE; ComponentLink1Description: Manufacturer URL; ComponentLink1URL: http://www.analog.com/en/index.html; ComponentLink2Description: Datasheet; ComponentLink2URL: http://www.analog.com/static/imported-files/data_sheets/AD7720.pdf; ComponentLink3Description: Package Specification; ComponentLink3URL: http://www.analog.com/static/imported-files/packages/249854663RU_28.pdf; ComponentLink4Description: Product URL; ComponentLink4URL: http://www.analog.com/en/analog-to-digital-converters/ad-converters/ad7720/products/product.html
footprint RU-28_N (TSOP, 28-Leads, Body 9.7x4.4mm, Pitch 0.65mm, IPC Medium Density)
footprint RU-28_L (TSOP, 28-Leads, Body 9.7x4.4mm, Pitch 0.65mm, IPC High Density)
footprint RU-28_M (TSOP, 28-Leads, Body 9.7x4.4mm, Pitch 0.65mm, IPC Low Density)
pins: 1 REF2 (io) "Reference Input/Output. REF2 connects to the output of an internal buffer amplifier used to drive the sigma-delta modulator. When REF2 is used as an input, REF1 must be connected to AGND.", 2 AGND (power) "Ground reference point for analog circuitry.", 3 NC "No Connect.", 4 STBY (in) "Standby, Logic Input. When STBY is high, the device is placed in a low power mode. When STBY is low, the device is powered up.", 5 DVAL (out) "Data Valid Logic Output. A logic high on DVAL indicates that the data bit stream from the AD7720 is an accurate digital representation of the analog voltage at the input to the sigma-delta modulator. The DVAL pin is set low (See Datasheet)", 6 DGND (power) "Ground reference for the digital circuitry.", 7 GC (in) "Digital Control Input. When GC is high, the gain error of the modulator can be calibrated.", 8 BIP (in) "Analog Input Range Select, Logic Input. A logic low on this input selects unipolar mode. A logic high selects bipolar mode.", 9 MZERO (in) "Digital Control Input. When MZERO is high, the modulator inputs are internally grounded, i.e., tied to AGND in unipolar mode and REF2 in bipolar mode. MZERO allows on-chip offsets to be calibrated out. MZERO is low for (See Datasheet)", 10 DATA (out) "Modulator Bit Stream. The digital bit stream from the sigma-delta modulator is output at DATA.", 11 SCLK (out) "Serial Clock, Logic Output. The bit stream from the modulator is valid on the rising edge of SCLK.", 12 RESETO (out) "Reset Logic Output. The signal applied to the RESET pin is made available as an output at RESETO.", 13 NC "No Connect.", 14 AGND (power) "Ground reference point for analog circuitry.", 15 DGND (power) "Ground reference for the digital circuitry.", 16 XTAL1/MCLK (in) "CMOS Logic Clock Input. The XTAL1/MCLK pin interfaces the device’s internal oscillator circuit to an external crystal or an external clock. A parallel resonant, fundamental-frequency, microprocessor-grade crystal and a 1 (See Datasheet)", 17 XTAL2 "Oscillator Output. The XTAL2 pin connects the internal oscillator output to an external crystal. If an external clock is used, XTAL2 should be left unconnected.", 18 AGND (power) "Ground reference point for analog circuitry.", 19 DVDD (power) "Digital Supply Voltage, +5 V +/- 5%.", 20 AGND (power) "Ground reference point for analog circuitry.", 21 VIN(-) (in) "Analog Input. In unipolar operation, the analog input range on VIN(+) is VIN(-) to (VIN(-) + VREF); for bipolar operation, the analog input range on VIN+ is (VIN(-) +/- VREF/2). The absolute analog input range must lie (See Datasheet)", 22 RESET (in) "Reset Logic Input. RESET is an asynchronous input. When RESET is taken high, the sigma-delta modulator is reset by shorting the integrator capacitors in the modulator. DVAL goes low for 20 MCLK cycles while the modulator is (See Datasheet)", 23 VIN(+) (in) "Analog Input. In unipolar operation, the analog input range on VIN(+) is VIN(-) to (VIN(-) + VREF); for bipolar operation, the analog input range on VIN+ is (VIN(-) +/- VREF/2). The absolute analog input range must lie (See Datasheet)", 24 AGND (power) "Ground reference point for analog circuitry.", 25 AVDD (power) "Analog Positive Supply Voltage, +5 V +/- 5%.", 26 AGND (power) "Ground reference point for analog circuitry.", 27 REF1 (io) "Reference Input/Output. REF1 connects via a 3 k ohm resistor to the output of the internal 2.5 V reference, and to the input of a buffer amplifier that drives the sigma-delta modulator. This pin can also be overdriven with (See Datasheet)", 28 AVDD (power) "Analog Positive Supply Voltage, +5 V +/- 5%."

## AD7720BRUZ-REEL7
designator U?
Single 16-Bit Sigma-Delta Analog-to-Digital Converter with Serial Interface, 12.5MSPS, -40 to +85 degC, RU-28, Pb-Free, Reel; Part Number: AD7720; Manufacturer: Analog Devices; Resolution (Bits): 16; Channels: 1; Throughput Rate (SPS): 12.5M; Interface: Ser; DatasheetVersion: Rev.0; PackageVersion: 2005; PackageReference: RU-28; PackageDescription: 28-Lead Thin Shrink Small Outline Package [TSSOP]; RoHS: Y; Packing: Reel; Mounting Technology: Surface Mount; Code_JEDEC: MO-153-AE; ComponentLink1Description: Manufacturer URL; ComponentLink1URL: http://www.analog.com/en/index.html; ComponentLink2Description: Datasheet; ComponentLink2URL: http://www.analog.com/static/imported-files/data_sheets/AD7720.pdf; ComponentLink3Description: Package Specification; ComponentLink3URL: http://www.analog.com/static/imported-files/packages/249854663RU_28.pdf; ComponentLink4Description: Product URL; ComponentLink4URL: http://www.analog.com/en/analog-to-digital-converters/ad-converters/ad7720/products/product.html
footprint RU-28_N (TSOP, 28-Leads, Body 9.7x4.4mm, Pitch 0.65mm, IPC Medium Density)
footprint RU-28_L (TSOP, 28-Leads, Body 9.7x4.4mm, Pitch 0.65mm, IPC High Density)
footprint RU-28_M (TSOP, 28-Leads, Body 9.7x4.4mm, Pitch 0.65mm, IPC Low Density)
pins: 1 REF2 (io) "Reference Input/Output. REF2 connects to the output of an internal buffer amplifier used to drive the sigma-delta modulator. When REF2 is used as an input, REF1 must be connected to AGND.", 2 AGND (power) "Ground reference point for analog circuitry.", 3 NC "No Connect.", 4 STBY (in) "Standby, Logic Input. When STBY is high, the device is placed in a low power mode. When STBY is low, the device is powered up.", 5 DVAL (out) "Data Valid Logic Output. A logic high on DVAL indicates that the data bit stream from the AD7720 is an accurate digital representation of the analog voltage at the input to the sigma-delta modulator. The DVAL pin is set low (See Datasheet)", 6 DGND (power) "Ground reference for the digital circuitry.", 7 GC (in) "Digital Control Input. When GC is high, the gain error of the modulator can be calibrated.", 8 BIP (in) "Analog Input Range Select, Logic Input. A logic low on this input selects unipolar mode. A logic high selects bipolar mode.", 9 MZERO (in) "Digital Control Input. When MZERO is high, the modulator inputs are internally grounded, i.e., tied to AGND in unipolar mode and REF2 in bipolar mode. MZERO allows on-chip offsets to be calibrated out. MZERO is low for (See Datasheet)", 10 DATA (out) "Modulator Bit Stream. The digital bit stream from the sigma-delta modulator is output at DATA.", 11 SCLK (out) "Serial Clock, Logic Output. The bit stream from the modulator is valid on the rising edge of SCLK.", 12 RESETO (out) "Reset Logic Output. The signal applied to the RESET pin is made available as an output at RESETO.", 13 NC "No Connect.", 14 AGND (power) "Ground reference point for analog circuitry.", 15 DGND (power) "Ground reference for the digital circuitry.", 16 XTAL1/MCLK (in) "CMOS Logic Clock Input. The XTAL1/MCLK pin interfaces the device’s internal oscillator circuit to an external crystal or an external clock. A parallel resonant, fundamental-frequency, microprocessor-grade crystal and a 1 (See Datasheet)", 17 XTAL2 "Oscillator Output. The XTAL2 pin connects the internal oscillator output to an external crystal. If an external clock is used, XTAL2 should be left unconnected.", 18 AGND (power) "Ground reference point for analog circuitry.", 19 DVDD (power) "Digital Supply Voltage, +5 V +/- 5%.", 20 AGND (power) "Ground reference point for analog circuitry.", 21 VIN(-) (in) "Analog Input. In unipolar operation, the analog input range on VIN(+) is VIN(-) to (VIN(-) + VREF); for bipolar operation, the analog input range on VIN+ is (VIN(-) +/- VREF/2). The absolute analog input range must lie (See Datasheet)", 22 RESET (in) "Reset Logic Input. RESET is an asynchronous input. When RESET is taken high, the sigma-delta modulator is reset by shorting the integrator capacitors in the modulator. DVAL goes low for 20 MCLK cycles while the modulator is (See Datasheet)", 23 VIN(+) (in) "Analog Input. In unipolar operation, the analog input range on VIN(+) is VIN(-) to (VIN(-) + VREF); for bipolar operation, the analog input range on VIN+ is (VIN(-) +/- VREF/2). The absolute analog input range must lie (See Datasheet)", 24 AGND (power) "Ground reference point for analog circuitry.", 25 AVDD (power) "Analog Positive Supply Voltage, +5 V +/- 5%.", 26 AGND (power) "Ground reference point for analog circuitry.", 27 REF1 (io) "Reference Input/Output. REF1 connects via a 3 k ohm resistor to the output of the internal 2.5 V reference, and to the input of a buffer amplifier that drives the sigma-delta modulator. This pin can also be overdriven with (See Datasheet)", 28 AVDD (power) "Analog Positive Supply Voltage, +5 V +/- 5%."